# EAGLE library part TL3472ID (library TL3472ID)
HIGH-SLEW-RATE, SINGLE-SUPPLY OPERATIONAL AMPLIFIER Source: Datasheet <http://www.ti.com/lit/gpn/TL3472>
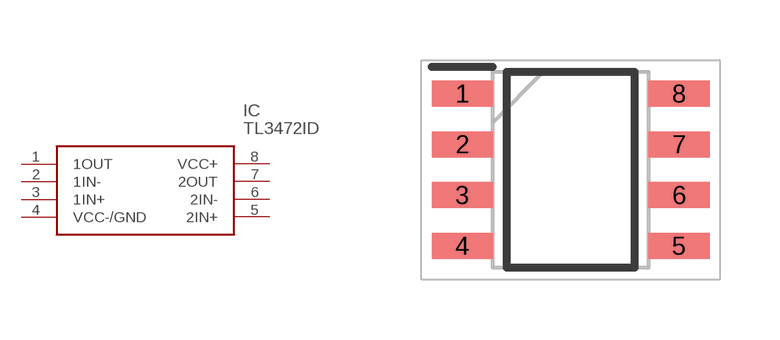
[diagram p0: symbol with the pads of SOIC127P600X175-8N; footprint SOIC127P600X175-8N]

Designator prefix IC

## TL3472ID (Arrow_Part_Number: TL3472ID; Arrow_Price-Stock: https://www.arrow.com/en/products/tl3472id/texas-instruments?region=nac; Description: HIGH-SLEW-RATE, SINGLE-SUPPLY OPERATIONAL AMPLIFIER; Height: 1.75mm; Manufacturer_Name: Texas Instruments; Manufacturer_Part_Number: TL3472ID; Mouser_Part_Number: 595-TL3472ID; Mouser_Price-Stock: https://www.mouser.co.uk/ProductDetail/Texas-Instruments/TL3472ID?qs=odmYgEirbwyqcIbDuNFdUw%3D%3D)  [SOIC127P600X175-8N]
1  1OUT
2  1IN-
3  1IN+
4  VCC-/GND
5  2IN+
6  2IN-
7  2OUT
8  VCC+

## Footprint SOIC127P600X175-8N (pad centres in mm)
D0008A
smd 1.528 x 0.65: 1 -2.711,1.905; 2 -2.711,0.635; 3 -2.711,-0.635; 4 -2.711,-1.905; 5 2.711,-1.905; 6 2.711,-0.635; 7 2.711,0.635; 8 2.711,1.905